# Altium integrated library Infineon_Power_MOSFET.IntLib: 1448 symbols (part 10 of 47)
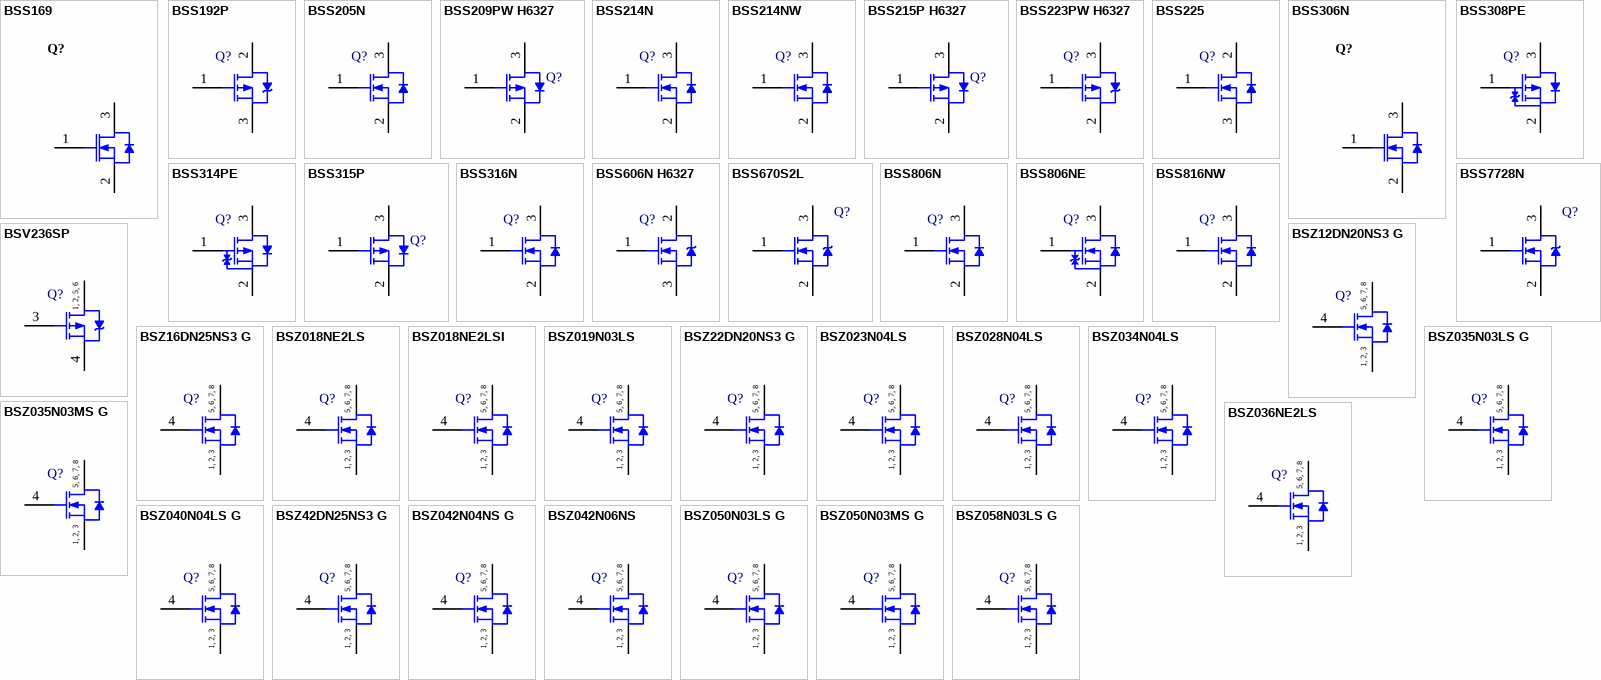
[diagram p46: symbols BSS169 to BSZ058N03LS G]

## BSZ035N03MS G
designator Q?
N-Channel OptiMOS 3 M-Serise Power-MOSFET, 30 V VDS, 40 A ID, -55 to 150 degC, PG-TSDSON-8-1, Reel, Green; Manufacturer: Infineon; PartNumber: BSZ035N03MS G; Green: TRUE; ID (max): 40 A; IDpuls (max): 160 A; Polarity: N; Ptot (max): 69 W; QG: 27 nC; RDS (on) (max): 3.5 mOhm; RDS (on) (max) (@4.5V): 4.3 mOhm; Rth: 1.8 K/W; RthJA (max): 60 K/W; VDS (max): 30 V; VGS(th) (max): 2 V; VGS(th) (min): 1 V; DatasheetVersion: Rev. 1.6; PackageVersion: Rev. 02, 09/2008; PackageReference: PG-TSDSON-8-1; PackageDescription: 8-Pin Plastic (Green) Thin Dual Small Outline Non-Leaded Package, 3.3 x 3.3 mm Body, 0.65 mm Pitch; Supplier 1: Mouser; Supplier Part Number 1: 726-BSZ035N03MSG; Supplier 2: Digi-Key; Supplier Part Number 2: BSZ035N03MSGINTR-ND; Supplier 3: Digi-Key; Supplier Part Number 3: BSZ035N03MSGINCT-ND; Supplier 4: Digi-Key; Supplier Part Number 4: BSZ035N03MSGINDKR-ND; Halogen-free: TRUE; Packing: Reel; RthJC (max): 1.8 K/W; Mounting Technology: Surface Mount; ComponentLink1Description: Manufacturer URL; ComponentLink1URL: http://www.infineon.com/; ComponentLink2Description: Datasheet; ComponentLink2URL: http://www.infineon.com/dgdl/BSZ035N03MSG_rev1.6.pdf?folderId=db3a304313d846880113d91d60c500c4&fileId=db3a304313d846880113ddeb998f02e7; ComponentLink3Description: Package Specification; ComponentLink3URL: http://www.infineon.com/dgdl/BSZ240N12NS3+Rev2.0.pdf?folderId=db3a304313b8b5a60113cee8763b02d7&fileId=db3a30432a40a650012a42f3057a0038
footprint INF-PG-TSDSON-8-1_V (TSDSON, 8-Leads, Body 3.3x3.3mm, Pitch 0.65mm)
pins: 1 SOURCE, 2 SOURCE, 3 SOURCE, 4 GATE, 5 DRAIN, 6 DRAIN, 7 DRAIN, 8 DRAIN
text: 5, 6, 7, 8; 1, 2, 3

## BSZ036NE2LS
designator Q?
N-Channel OptiMOS Power-MOSFET, 25 V VDS, 40 A ID, -55 to 150 degC, PG-TSDSON-8, Reel, Green; Manufacturer: Infineon; PartNumber: BSZ036NE2LS; Green: TRUE; ID (max): 40 A; IDpuls (max): 160 A; Polarity: N; Ptot (max): 37 W; QG: 16 nC; RDS (on) (max): 3.6 mOhm; RDS (on) (max) (@4.5V): 5.1 mOhm; Rth: 3.4 K/W; RthJA (max): 60 K/W; VDS (max): 25 V; VGS(th) (max): 2 V; VGS(th) (min): 1.2 V; DatasheetVersion: Rev. 2.1; PackageVersion: Rev. 02, 12/2010; PackageReference: PG-TSDSON-8; PackageDescription: 8-Pin Plastic (Green) Thin Dual Small Outline Non-Leaded Package, 3.3 x 3.3 mm Body, 0.65 mm Pitch; Supplier 1: Mouser; Supplier Part Number 1: 726-BSZ036NE2LS; Supplier 2: Digi-Key; Supplier Part Number 2: BSZ036NE2LSTR-ND; Supplier 3: Digi-Key; Supplier Part Number 3: BSZ036NE2LSCT-ND; Supplier 4: Digi-Key; Supplier Part Number 4: BSZ036NE2LSDKR-ND; Halogen-free: TRUE; Packing: Reel; RthJC (max): 3.4 K/W; Mounting Technology: Surface Mount; ComponentLink1Description: Manufacturer URL; ComponentLink1URL: http://www.infineon.com/; ComponentLink2Description: Datasheet; ComponentLink2URL: http://www.infineon.com/dgdl/BSZ036NE2LS_Rev+2.1.pdf?folderId=db3a304313b8b5a60113cee8763b02d7&fileId=db3a30432ea425a4012ed92706043869; ComponentLink3Description: Package Specification; ComponentLink3URL: http://www.infineon.com/dgdl/DS_BSZ023N04LS_2_0_N.T..pdf?folderId=db3a304313b8b5a60113cee8763b02d7&fileId=db3a3043353fdc160135530f51f54823
footprint INF-PG-TSDSON-8_FL_V (TSDSON, 8-Leads, Body 3.3x3.3mm, Pitch 0.65mm)
pins: 1 SOURCE, 2 SOURCE, 3 SOURCE, 4 GATE, 5 DRAIN, 6 DRAIN, 7 DRAIN, 8 DRAIN
text: 5, 6, 7, 8; 1, 2, 3

## BSZ040N04LS G
designator Q?
N-Channel OptiMOS 3 Power-Transistor, 40 V VDS, 40 A ID, -55 to 150 degC, PG-TSDSON-8-1, Reel, Green; Manufacturer: Infineon; PartNumber: BSZ040N04LS G; Green: TRUE; ID (max): 40 A; IDpuls (max): 160 A; Polarity: N; Ptot (max): 69 W; QG: 48 nC; RDS (on) (max): 4 mOhm; RDS (on) (max) (@4.5V): 5.6 mOhm; Rth: 1.8 K/W; RthJA (max): 60 K/W; VDS (max): 40 V; VGS(th) (max): 2 V; VGS(th) (min): 1.2 V; DatasheetVersion: Rev. 1.3; PackageVersion: Rev. 01, 03/2007; PackageReference: PG-TSDSON-8-1; PackageDescription: 8-Pin Plastic (Green) Thin Dual Small Outline Non-Leaded Package, 3.3 x 3.3 mm Body, 0.65 mm Pitch; Supplier 1: Mouser; Supplier Part Number 1: 726-BSZ040N04LSG; Supplier 2: Digi-Key; Supplier Part Number 2: BSZ040N04LSGINTR-ND; Supplier 3: Digi-Key; Supplier Part Number 3: BSZ040N04LSGINCT-ND; Supplier 4: Digi-Key; Supplier Part Number 4: BSZ040N04LSGINDKR-ND; Halogen-free: TRUE; Packing: Reel; RthJC (max): 1.8 K/W; Mounting Technology: Surface Mount; ComponentLink1Description: Manufacturer URL; ComponentLink1URL: http://www.infineon.com/; ComponentLink2Description: Datasheet; ComponentLink2URL: http://www.infineon.com/dgdl/BSZ040N04LSG_rev1.3_.pdf?folderId=db3a3043163797a6011643468e7505a4&fileId=db3a3043163797a6011643b9e30f067b; ComponentLink3Description: Package Specification; ComponentLink3URL: http://www.infineon.com/dgdl/BSZ100N06LS3_rev2.3.pdf?folderId=db3a30431ddc9372011ebafa04517f8b&fileId=db3a30431ddc9372011ebb132c97000a
footprint INF-PG-TSDSON-8-1_A_V (TSDSON, 8-Leads, Body 3.3x3.3mm, Pitch 0.65mm)
pins: 1 SOURCE, 2 SOURCE, 3 SOURCE, 4 GATE, 5 DRAIN, 6 DRAIN, 7 DRAIN, 8 DRAIN
text: 5, 6, 7, 8; 1, 2, 3

## BSZ42DN25NS3 G
designator Q?
N-Channel OptiMOS 3 Power-Transistor, 250 V VDS, 5 A ID, -55 to 150 degC, PG-TSDSON-8-1, Reel, Green; Manufacturer: Infineon; PartNumber: BSZ42DN25NS3 G; Green: TRUE; ID (max): 5 A; IDpuls (max): 20 A; Polarity: N; Ptot (max): 33.8 W; QG: 4.2 nC; RDS (on) (max): 425 mOhm; Rth: 3.7 K/W; RthJA (max): 60 K/W; VDS (max): 250 V; VGS(th) (max): 4 V; VGS(th) (min): 2 V; DatasheetVersion: Rev. 2.2; PackageVersion: Rev. 02, 09/2008; PackageReference: PG-TSDSON-8-1; PackageDescription: 8-Pin Plastic (Green) Thin Dual Small Outline Non-Leaded Package, 3.3 x 3.3 mm Body, 0.65 mm Pitch; Supplier 1: Mouser; Supplier Part Number 1: 726-BSZ42DN25NS3G; Supplier 2: Digi-Key; Supplier Part Number 2: BSZ42DN25NS3 GTR-ND; Supplier 3: Digi-Key; Supplier Part Number 3: BSZ42DN25NS3 GCT-ND; Supplier 4: Digi-Key; Supplier Part Number 4: BSZ42DN25NS3 GDKR-ND; Halogen-free: TRUE; Packing: Reel; RthJC (max): 3.7 K/W; Mounting Technology: Surface Mount; ComponentLink1Description: Manufacturer URL; ComponentLink1URL: http://www.infineon.com/; ComponentLink2Description: Datasheet; ComponentLink2URL: http://www.infineon.com/dgdl/BSZ42DN25NS3+Rev2.2.pdf?folderId=db3a304325305e6d012596c6ca7b290a&fileId=db3a30432ad629a6012b15e5a93b1a8b; ComponentLink3Description: Package Specification; ComponentLink3URL: http://www.infineon.com/dgdl/BSZ240N12NS3+Rev2.0.pdf?folderId=db3a304313b8b5a60113cee8763b02d7&fileId=db3a30432a40a650012a42f3057a0038
footprint INF-PG-TSDSON-8-1_V (TSDSON, 8-Leads, Body 3.3x3.3mm, Pitch 0.65mm)
pins: 1 SOURCE, 2 SOURCE, 3 SOURCE, 4 GATE, 5 DRAIN, 6 DRAIN, 7 DRAIN, 8 DRAIN
text: 5, 6, 7, 8; 1, 2, 3

## BSZ042N04NS G
designator Q?
N-Channel OptiMOS 3 Power-Transistor, 40 V VDS, 40 A ID, -55 to 150 degC, PG-TSDSON-8-21, Reel, Green; Manufacturer: Infineon; PartNumber: BSZ042N04NS G; Green: TRUE; ID (max): 40 A; IDpuls (max): 160 A; Polarity: N; Ptot (max): 69 W; QG: 35 nC; RDS (on) (max): 4.2 mOhm; Rth: 1.8 K/W; RthJA (max): 60 K/W; VDS (max): 40 V; VGS(th) (max): 4 V; VGS(th) (min): 2 V; DatasheetVersion: Rev. 1.3; PackageVersion: Rev. 01, 03/2007; PackageReference: PG-TSDSON-8-21; PackageDescription: 8-Pin Plastic (Green) Small Outline Non-Leaded Package, 3.3 x 3.3 mm Body, 0.65 mm Pitch; Supplier 1: Mouser; Supplier Part Number 1: 726-BSZ042N04NSG; Supplier 2: Digi-Key; Supplier Part Number 2: BSZ042N04NSGINTR-ND; Supplier 3: Digi-Key; Supplier Part Number 3: BSZ042N04NSGINCT-ND; Supplier 4: Digi-Key; Supplier Part Number 4: BSZ042N04NSGINDKR-ND; Halogen-free: TRUE; Packing: Reel; RthJC (max): 1.8 K/W; Mounting Technology: Surface Mount; ComponentLink1Description: Manufacturer URL; ComponentLink1URL: http://www.infineon.com/; ComponentLink2Description: Datasheet; ComponentLink2URL: http://www.infineon.com/dgdl/BSZ042N04NSG_rev2.pdf?folderId=db3a3043156fd5730115c7d50620107c&fileId=db3a30431689f4420116c47d8f88084b; ComponentLink3Description: Package Specification; ComponentLink3URL: http://www.infineon.com/dgdl/BSZ110N06NS3_Rev2.4.pdf?folderId=db3a30431ddc9372011ebafa04517f8b&fileId=db3a30431ddc9372011ebb15d4e8001a
footprint INF-PG-TSDSON-8-21_V (SON, 8-Leads, Body 3.3x3.3mm, Pitch 0.65mm)
pins: 1 SOURCE, 2 SOURCE, 3 SOURCE, 4 GATE, 5 DRAIN, 6 DRAIN, 7 DRAIN, 8 DRAIN
text: 5, 6, 7, 8; 1, 2, 3

## BSZ042N06NS
designator Q?
N-Channel OptiMOS Power-Transistor, 60 V VDS, 40 A ID, -55 to 150 degC, PG-TSDSON-8, Reel, Green; Manufacturer: Infineon; PartNumber: BSZ042N06NS; Green: TRUE; ID (max): 40 A; IDpuls (max): 160 A; Polarity: N; Ptot (max): 69 W; QG: 27 nC; RDS (on) (max): 4.2 mOhm; Rth: 1.8 K/W; RthJA (max): 60 K/W; VDS (max): 60 V; VGS(th) (max): 3.3 V; VGS(th) (min): 2.1 V; DatasheetVersion: Rev. 2.1; PackageVersion: Rev. 02, 12/2010; PackageReference: PG-TSDSON-8; PackageDescription: 8-Pin Plastic (Green) Thin Dual Small Outline Non-Leaded Package, 3.3 x 3.3 mm Body, 0.65 mm Pitch; Supplier 1: Digi-Key; Supplier Part Number 1: BSZ042N06NSTR-ND; Supplier 2: Digi-Key; Supplier Part Number 2: BSZ042N06NSCT-ND; Supplier 3: Digi-Key; Supplier Part Number 3: BSZ042N06NSDKR-ND; Halogen-free: TRUE; Packing: Reel; RthJC (max): 1.8 K/W; Mounting Technology: Surface Mount; ComponentLink1Description: Manufacturer URL; ComponentLink1URL: http://www.infineon.com/; ComponentLink2Description: Datasheet; ComponentLink2URL: http://www.infineon.com/dgdl/BSZ042N06NS_Rev2.1.pdf?folderId=db3a30431ddc9372011ebafa04517f8b&fileId=db3a3043345a30bc013465d4bf1862fd; ComponentLink3Description: Package Specification; ComponentLink3URL: http://www.infineon.com/dgdl/DS_BSZ023N04LS_2_0_N.T..pdf?folderId=db3a304313b8b5a60113cee8763b02d7&fileId=db3a3043353fdc160135530f51f54823
footprint INF-PG-TSDSON-8_FL_V (TSDSON, 8-Leads, Body 3.3x3.3mm, Pitch 0.65mm)
pins: 1 SOURCE, 2 SOURCE, 3 SOURCE, 4 GATE, 5 DRAIN, 6 DRAIN, 7 DRAIN, 8 DRAIN
text: 5, 6, 7, 8; 1, 2, 3

## BSZ050N03LS G
designator Q?
N-Channel OptiMOS 3 Power-MOSFET, 30 V VDS, 40 A ID, -55 to 150 degC, PG-TSDSON-8-1, Reel, Green; Manufacturer: Infineon; PartNumber: BSZ050N03LS G; Green: TRUE; ID (max): 40 A; IDpuls (max): 160 A; Polarity: N; Ptot (max): 50 W; QG: 13 nC; RDS (on) (max): 5 mOhm; RDS (on) (max) (@4.5V): 7.8 mOhm; Rth: 2.5 K/W; RthJA (max): 60 K/W; VDS (max): 30 V; VGS(th) (max): 2.2 V; VGS(th) (min): 1 V; DatasheetVersion: Rev. 1.3; PackageVersion: Rev. 02, 09/2008; PackageReference: PG-TSDSON-8-1; PackageDescription: 8-Pin Plastic (Green) Thin Dual Small Outline Non-Leaded Package, 3.3 x 3.3 mm Body, 0.65 mm Pitch; Supplier 1: Mouser; Supplier Part Number 1: 726-BSZ050N03LSG; Supplier 2: Newark; Supplier Part Number 2: 60R2532; Supplier 3: Farnell; Supplier Part Number 3: 1775495; Supplier 4: Digi-Key; Supplier Part Number 4: BSZ050N03LSGINTR-ND; Supplier 5: Digi-Key; Supplier Part Number 5: BSZ050N03LSGINCT-ND; Supplier 6: Digi-Key; Supplier Part Number 6: BSZ050N03LSGINDKR-ND; Halogen-free: TRUE; Packing: Reel; RthJC (max): 2.5 K/W; Mounting Technology: Surface Mount; ComponentLink1Description: Manufacturer URL; ComponentLink1URL: http://www.infineon.com/; ComponentLink2Description: Datasheet; ComponentLink2URL: http://www.infineon.com/dgdl/BSZ050N03LSG_rev2.pdf?folderId=db3a304313b8b5a60113cee8ed2a02db&fileId=db3a304313b8b5a60113d3f6944e03ee; ComponentLink3Description: Package Specification; ComponentLink3URL: http://www.infineon.com/dgdl/BSZ240N12NS3+Rev2.0.pdf?folderId=db3a304313b8b5a60113cee8763b02d7&fileId=db3a30432a40a650012a42f3057a0038
footprint INF-PG-TSDSON-8-1_V (TSDSON, 8-Leads, Body 3.3x3.3mm, Pitch 0.65mm)
pins: 1 SOURCE, 2 SOURCE, 3 SOURCE, 4 GATE, 5 DRAIN, 6 DRAIN, 7 DRAIN, 8 DRAIN
text: 5, 6, 7, 8; 1, 2, 3

## BSZ050N03MS G
designator Q?
N-Channel OptiMOS 3 M-Series Power-MOSFET, 30 V VDS, 40 A ID, -55 to 150 degC, PG-TSDSON-8-1, Reel, Green; Manufacturer: Infineon; PartNumber: BSZ050N03MS G; Green: TRUE; ID (max): 40 A; IDpuls (max): 160 A; Polarity: N; Ptot (max): 48 W; QG: 34 nC; RDS (on) (max): 4.5 mOhm; RDS (on) (max) (@4.5V): 5.7 mOhm; Rth: 2.5 K/W; RthJA (max): 60 K/W; VDS (max): 30 V; VGS(th) (max): 2 V; VGS(th) (min): 1 V; DatasheetVersion: Rev. 1.7; PackageVersion: Rev. 02, 09/2008; PackageReference: PG-TSDSON-8-1; PackageDescription: 8-Pin Plastic (Green) Thin Dual Small Outline Non-Leaded Package, 3.3 x 3.3 mm Body, 0.65 mm Pitch; Supplier 1: Mouser; Supplier Part Number 1: 726-BSZ050N03MSG; Supplier 2: Digi-Key; Supplier Part Number 2: BSZ050N03MSGINTR-ND; Supplier 3: Digi-Key; Supplier Part Number 3: BSZ050N03MSGINCT-ND; Supplier 4: Digi-Key; Supplier Part Number 4: BSZ050N03MSGINDKR-ND; Halogen-free: TRUE; Packing: Reel; RthJC (max): 2.5 K/W; Mounting Technology: Surface Mount; ComponentLink1Description: Manufacturer URL; ComponentLink1URL: http://www.infineon.com/; ComponentLink2Description: Datasheet; ComponentLink2URL: http://www.infineon.com/dgdl/BSZ050N03MSG_rev2.pdf?folderId=db3a304313d846880113d91d60c500c4&fileId=db3a304313d846880113ddea0e8802e4; ComponentLink3Description: Package Specification; ComponentLink3URL: http://www.infineon.com/dgdl/BSZ240N12NS3+Rev2.0.pdf?folderId=db3a304313b8b5a60113cee8763b02d7&fileId=db3a30432a40a650012a42f3057a0038
footprint INF-PG-TSDSON-8-1_V (TSDSON, 8-Leads, Body 3.3x3.3mm, Pitch 0.65mm)
pins: 1 SOURCE, 2 SOURCE, 3 SOURCE, 4 GATE, 5 DRAIN, 6 DRAIN, 7 DRAIN, 8 DRAIN
text: 5, 6, 7, 8; 1, 2, 3

## BSZ058N03LS G
designator Q?
N-Channel OptiMOS 3 Power-MOSFET, 30 V VDS, 40 A ID, -55 to 150 degC, PG-TSDSON-8-1, Reel, Green; Manufacturer: Infineon; PartNumber: BSZ058N03LS G; Green: TRUE; ID (max): 40 A; IDpuls (max): 160 A; Polarity: N; Ptot (max): 45 W; QG: 22 nC; RDS (on) (max): 5.8 mOhm; RDS (on) (max) (@4.5V): 8.9 mOhm; Rth: 2.8 K/W; RthJA (max): 60 K/W; VDS (max): 30 V; VGS(th) (max): 2.2 V; VGS(th) (min): 1 V; DatasheetVersion: Rev. 2.0; PackageVersion: Rev. 02, 09/2008; PackageReference: PG-TSDSON-8-1; PackageDescription: 8-Pin Plastic (Green) Thin Dual Small Outline Non-Leaded Package, 3.3 x 3.3 mm Body, 0.65 mm Pitch; Supplier 1: Mouser; Supplier Part Number 1: 726-BSZ058N03LSG; Supplier 2: Newark; Supplier Part Number 2: 60R2534; Supplier 3: Farnell; Supplier Part Number 3: 1775497; Supplier 4: Digi-Key; Supplier Part Number 4: BSZ058N03LSGINTR-ND; Supplier 5: Digi-Key; Supplier Part Number 5: BSZ058N03LSGINCT-ND; Supplier 6: Digi-Key; Supplier Part Number 6: BSZ058N03LSGINDKR-ND; Halogen-free: TRUE; Packing: Reel; RthJC (max): 2.8 K/W; Mounting Technology: Surface Mount; ComponentLink1Description: Manufacturer URL; ComponentLink1URL: http://www.infineon.com/; ComponentLink2Description: Datasheet; ComponentLink2URL: http://www.infineon.com/dgdl/BSZ058N03LSG_rev2.pdf?folderId=db3a304313b8b5a60113cee8ed2a02db&fileId=db3a304313b8b5a60113d3fa0a7e03f2; ComponentLink3Description: Package Specification; ComponentLink3URL: http://www.infineon.com/dgdl/BSZ240N12NS3+Rev2.0.pdf?folderId=db3a304313b8b5a60113cee8763b02d7&fileId=db3a30432a40a650012a42f3057a0038
footprint INF-PG-TSDSON-8-1_V (TSDSON, 8-Leads, Body 3.3x3.3mm, Pitch 0.65mm)
pins: 1 SOURCE, 2 SOURCE, 3 SOURCE, 4 GATE, 5 DRAIN, 6 DRAIN, 7 DRAIN, 8 DRAIN
text: 5, 6, 7, 8; 1, 2, 3

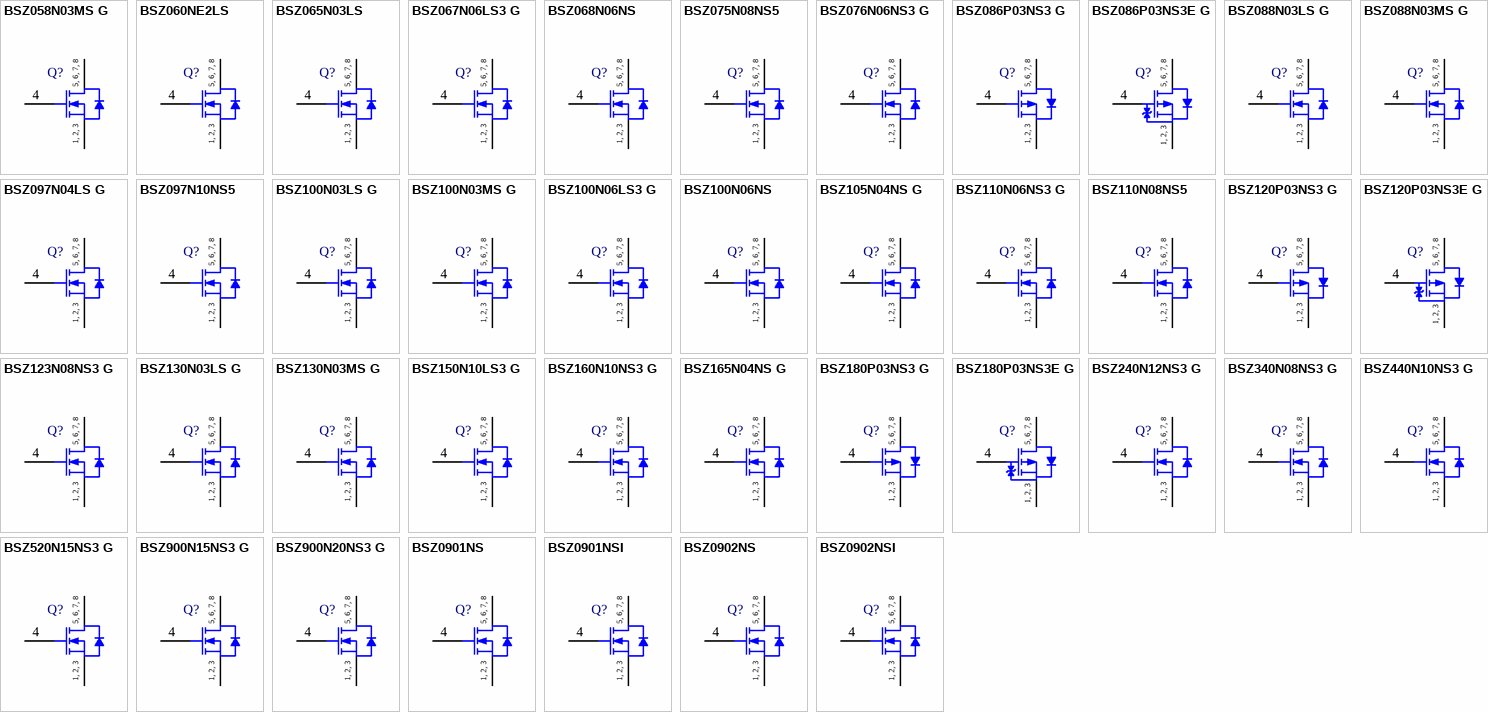
[diagram p8: symbols BSZ058N03MS G to BSZ0902NSI]

## BSZ058N03MS G
designator Q?
N-Channel OptiMOS 3 M-Series Power-MOSFET, 30 V VDS, 40 A ID, -55 to 150 degC, PG-TSDSON-8-1, Reel, Green; Manufacturer: Infineon; PartNumber: BSZ058N03MS G; Green: TRUE; ID (max): 40 A; IDpuls (max): 160 A; Polarity: N; Ptot (max): 45 W; QG: 14 nC; RDS (on) (max): 5 mOhm; RDS (on) (max) (@4.5V): 6.4 mOhm; Rth: 2.8 K/W; RthJA (max): 60 K/W; VDS (max): 30 V; VGS(th) (max): 2 V; VGS(th) (min): 1 V; DatasheetVersion: Rev. 2.0; PackageVersion: Rev. 02, 09/2008; PackageReference: PG-TSDSON-8-1; PackageDescription: 8-Pin Plastic (Green) Thin Dual Small Outline Non-Leaded Package, 3.3 x 3.3 mm Body, 0.65 mm Pitch; Supplier 1: Mouser; Supplier Part Number 1: 726-BSZ058N03MSG; Supplier 2: Digi-Key; Supplier Part Number 2: BSZ058N03MSGINTR-ND; Supplier 3: Digi-Key; Supplier Part Number 3: BSZ058N03MSGINCT-ND; Supplier 4: Digi-Key; Supplier Part Number 4: BSZ058N03MSGINDKR-ND; Halogen-free: TRUE; Packing: Reel; RthJC (max): 2.8 K/W; Mounting Technology: Surface Mount; ComponentLink1Description: Manufacturer URL; ComponentLink1URL: http://www.infineon.com/; ComponentLink2Description: Datasheet; ComponentLink2URL: http://www.infineon.com/dgdl/BSZ058N03MSG_rev2.pdf?folderId=db3a304313d846880113d91d60c500c4&fileId=db3a304313d846880113ddee2ce902ed; ComponentLink3Description: Package Specification; ComponentLink3URL: http://www.infineon.com/dgdl/BSZ240N12NS3+Rev2.0.pdf?folderId=db3a304313b8b5a60113cee8763b02d7&fileId=db3a30432a40a650012a42f3057a0038
footprint INF-PG-TSDSON-8-1_V (TSDSON, 8-Leads, Body 3.3x3.3mm, Pitch 0.65mm)
pins: 1 SOURCE, 2 SOURCE, 3 SOURCE, 4 GATE, 5 DRAIN, 6 DRAIN, 7 DRAIN, 8 DRAIN
text: 5, 6, 7, 8; 1, 2, 3

## BSZ060NE2LS
designator Q?
N-Channel OptiMOS Power-MOSFET, 25 V VDS, 40 A ID, -55 to 150 degC, PG-TSDSON-8, Reel, Green; Manufacturer: Infineon; PartNumber: BSZ060NE2LS; Green: TRUE; ID (max): 40 A; IDpuls (max): 160 A; Polarity: N; Ptot (max): 26 W; QG: 9.1 nC; RDS (on) (max): 6 mOhm; RDS (on) (max) (@4.5V): 8.1 mOhm; Rth: 4.9 K/W; RthJA (max): 62 K/W; VDS (max): 25 V; VGS(th) (max): 2 V; VGS(th) (min): 1.2 V; DatasheetVersion: Rev. 2.1; PackageVersion: Rev. 02, 12/2010; PackageReference: PG-TSDSON-8; PackageDescription: 8-Pin Plastic (Green) Thin Dual Small Outline Non-Leaded Package, 3.3 x 3.3 mm Body, 0.65 mm Pitch; Supplier 1: Mouser; Supplier Part Number 1: 726-BSZ060NE2LS; Supplier 2: Digi-Key; Supplier Part Number 2: BSZ060NE2LSTR-ND; Supplier 3: Digi-Key; Supplier Part Number 3: BSZ060NE2LSCT-ND; Supplier 4: Digi-Key; Supplier Part Number 4: BSZ060NE2LSDKR-ND; Halogen-free: TRUE; Packing: Reel; RthJC (max): 4.9 K/W; Mounting Technology: Surface Mount; ComponentLink1Description: Manufacturer URL; ComponentLink1URL: http://www.infineon.com/; ComponentLink2Description: Datasheet; ComponentLink2URL: http://www.infineon.com/dgdl/BSZ060NE2LS_Rev+2.1.pdf?folderId=db3a304313b8b5a60113cee8763b02d7&fileId=db3a30432ea425a4012ec927cb360e1f; ComponentLink3Description: Package Specification; ComponentLink3URL: http://www.infineon.com/dgdl/DS_BSZ023N04LS_2_0_N.T..pdf?folderId=db3a304313b8b5a60113cee8763b02d7&fileId=db3a3043353fdc160135530f51f54823
footprint INF-PG-TSDSON-8_FL_V (TSDSON, 8-Leads, Body 3.3x3.3mm, Pitch 0.65mm)
pins: 1 SOURCE, 2 SOURCE, 3 SOURCE, 4 GATE, 5 DRAIN, 6 DRAIN, 7 DRAIN, 8 DRAIN
text: 5, 6, 7, 8; 1, 2, 3

## BSZ065N03LS
designator Q?
N-Channel OptiMOS Power-MOSFET, 30 V VDS, 40 A ID, -55 to 150 degC, PG-TSDSON-8, Reel, Green; Manufacturer: Infineon; PartNumber: BSZ065N03LS; Green: TRUE; ID (max): 40 A; IDpuls (max): 160 A; Polarity: N; Ptot (max): 26 W; QG: 10 nC; RDS (on) (max): 6.5 mOhm; RDS (on) (max) (@4.5V): 8.6 mOhm; Rth: 4.9 K/W; RthJA (max): 60 K/W; VDS (max): 30 V; VGS(th) (max): 2 V; VGS(th) (min): 1.2 V; DatasheetVersion: Rev. 2.1; PackageVersion: Rev. 02, 12/2010; PackageReference: PG-TSDSON-8; PackageDescription: 8-Pin Plastic (Green) Thin Dual Small Outline Non-Leaded Package, 3.3 x 3.3 mm Body, 0.65 mm Pitch; Supplier 1: Mouser; Supplier Part Number 1: 726-BSZ065N03LS; Supplier 2: Digi-Key; Supplier Part Number 2: BSZ065N03LSTR-ND; Supplier 3: Digi-Key; Supplier Part Number 3: BSZ065N03LSCT-ND; Supplier 4: Digi-Key; Supplier Part Number 4: BSZ065N03LSDKR-ND; Halogen-free: TRUE; Packing: Reel; RthJC (max): 4.9 K/W; Mounting Technology: Surface Mount; ComponentLink1Description: Manufacturer URL; ComponentLink1URL: http://www.infineon.com/; ComponentLink2Description: Datasheet; ComponentLink2URL: http://www.infineon.com/dgdl/BSZ065N03LS_Rev2.1_.pdf?folderId=db3a304313b8b5a60113cee8763b02d7&fileId=db3a30432ea425a4012ed7fbc0b23834; ComponentLink3Description: Package Specification; ComponentLink3URL: http://www.infineon.com/dgdl/DS_BSZ023N04LS_2_0_N.T..pdf?folderId=db3a304313b8b5a60113cee8763b02d7&fileId=db3a3043353fdc160135530f51f54823
footprint INF-PG-TSDSON-8_FL_V (TSDSON, 8-Leads, Body 3.3x3.3mm, Pitch 0.65mm)
pins: 1 SOURCE, 2 SOURCE, 3 SOURCE, 4 GATE, 5 DRAIN, 6 DRAIN, 7 DRAIN, 8 DRAIN
text: 5, 6, 7, 8; 1, 2, 3

## BSZ067N06LS3 G
designator Q?
N-Channel OptiMOS 3 Power-Transistor, 60 V VDS, 20 A ID, -55 to 150 degC, PG-TSDSON-8-1, Reel, Green; Manufacturer: Infineon; PartNumber: BSZ067N06LS3 G; Green: TRUE; ID (max): 20 A; IDpuls (max): 80 A; Polarity: N; Ptot (max): 69 W; QG: 23 nC; RDS (on) (max): 6.7 mOhm; RDS (on) (max) (@4.5V): 12.1 mOhm; Rth: 1.8 K/W; RthJA (max): 60 K/W; VDS (max): 60 V; VGS(th) (max): 2.2 V; VGS(th) (min): 1.2 V; DatasheetVersion: Rev. 2.3; PackageVersion: Rev. 01, 03/2007; PackageReference: PG-TSDSON-8-1; PackageDescription: 8-Pin Plastic (Green) Thin Dual Small Outline Non-Leaded Package, 3.3 x 3.3 mm Body, 0.65 mm Pitch; Supplier 1: Mouser; Supplier Part Number 1: 726-BSZ067N06LS3G; Supplier 2: Newark; Supplier Part Number 2: 47W3361; Supplier 3: Farnell; Supplier Part Number 3: 2212830; Supplier 4: Digi-Key; Supplier Part Number 4: BSZ067N06LS3GINTR-ND; Supplier 5: Digi-Key; Supplier Part Number 5: BSZ067N06LS3GINCT-ND; Supplier 6: Digi-Key; Supplier Part Number 6: BSZ067N06LS3GINDKR-ND; Halogen-free: TRUE; Packing: Reel; RthJC (max): 1.8 K/W; Mounting Technology: Surface Mount; ComponentLink1Description: Manufacturer URL; ComponentLink1URL: http://www.infineon.com/; ComponentLink2Description: Datasheet; ComponentLink2URL: http://www.infineon.com/dgdl/BSZ067N06LS3_rev2.3.pdf?folderId=db3a30431ddc9372011ebafa04517f8b&fileId=db3a30431ddc9372011ebb0f41537ff6; ComponentLink3Description: Package Specification; ComponentLink3URL: http://www.infineon.com/dgdl/BSZ100N06LS3_rev2.3.pdf?folderId=db3a30431ddc9372011ebafa04517f8b&fileId=db3a30431ddc9372011ebb132c97000a
footprint INF-PG-TSDSON-8-1_A_V (TSDSON, 8-Leads, Body 3.3x3.3mm, Pitch 0.65mm)
pins: 1 SOURCE, 2 SOURCE, 3 SOURCE, 4 GATE, 5 DRAIN, 6 DRAIN, 7 DRAIN, 8 DRAIN
text: 5, 6, 7, 8; 1, 2, 3

## BSZ068N06NS
designator Q?
N-Channel OptiMOS(TM) Power-MOSFET, 60 V VDS, 40 A ID, -55 to 150 degC, PG-TSDSON-8, Reel, Green; Manufacturer: Infineon; PartNumber: BSZ068N06NS; Green: TRUE; ID (max): 40 A; IDpuls (max): 160 A; Polarity: N; Ptot (max): 46 W; QG: 17 nc; RDS (on) (max): 6.8 mOhm; RthJA (max): 60 K/W; RthJC (max): 2.7 K/W; VDS (max): 60 V; VGS(th) (max): 3.3 V; VGS(th) (min): 2.1 V; DatasheetVersion: Rev. 2.0; PackageVersion: Rev. 2.0, 04/2013; PackageReference: PG-TSDSON-8; PackageDescription: 8-Pin Plastic (Green) Thin Dual Small Outline Non-Leaded Package, 3.3 x 3.3 mm Body, 0.65 mm Pitch; Supplier 1: Mouser; Supplier Part Number 1: N/A; Halogen-free: TRUE; Mounting: SMD; Packing: Reel; Technology: OptiMOS(TM); Mounting Technology: Surface Mount; ComponentLink1Description: Manufacturer URL; ComponentLink1URL: http://www.infineon.com/; ComponentLink2Description: Datasheet; ComponentLink2URL: http://www.infineon.com/dgdl/BSZ068N06NS_Rev2.0.pdf?folderId=db3a304313b8b5a60113cee8763b02d7&fileId=db3a304342371bb001424c918e60710e; ComponentLink3Description: Package Specification; ComponentLink3URL: http://www.infineon.com/dgdl/BSZ034N04LS_rev2.0.pdf?folderId=db3a304313b8b5a60113cee8763b02d7&fileId=db3a304342371bb001424c3fe5bc7083
footprint INF-PG-TSDSON-8_FL_V (TSDSON, 8-Leads, Body 3.3x3.3mm, Pitch 0.65mm)
pins: 1 SOURCE, 2 SOURCE, 3 SOURCE, 4 GATE, 5 DRAIN, 6 DRAIN, 7 DRAIN, 8 DRAIN
text: 5, 6, 7, 8; 1, 2, 3

## BSZ075N08NS5
designator Q?
N-Channel OptiMOS(TM) 5 Power-Transistor, 80 V VDS, 40 A ID, -55 to 150 degC, PG-TSDSON-8, Reel, Green; Manufacturer: Infineon; PartNumber: BSZ075N08NS5; Green: TRUE; ID (max): 40 A; IDpuls (max): 160 A; Polarity: N; Ptot (max): 69 W; QG: 24 nc; RDS (on) (max): 7.5 mOhm; RthJA (max): 60 K/W; RthJC (max): 1.8 K/W; VDS (max): 80 V; VGS(th) (max): 3.8 V; VGS(th) (min): 2.2 V; DatasheetVersion: Rev. 2.1; PackageVersion: Rev. 2.0, 04/2013; PackageReference: PG-TSDSON-8; PackageDescription: 8-Pin Plastic (Green) Thin Dual Small Outline Non-Leaded Package, 3.3 x 3.3 mm Body, 0.65 mm Pitch; Halogen-free: TRUE; Mounting: SMD; Packing: Reel; Technology: OptiMOS(TM); Mounting Technology: Surface Mount; ComponentLink1Description: Manufacturer URL; ComponentLink1URL: http://www.infineon.com/; ComponentLink2Description: Datasheet; ComponentLink2URL: http://www.infineon.com/dgdl/BSZ075N08NS5_2_1.pdf?folderId=db3a304313b8b5a60113cee7c66a02d6&fileId=5546d461454603990145ccd5743e61f8; ComponentLink3Description: Package Specification; ComponentLink3URL: http://www.infineon.com/dgdl/BSZ034N04LS_rev2.0.pdf?folderId=db3a304313b8b5a60113cee8763b02d7&fileId=db3a304342371bb001424c3fe5bc7083
footprint INF-PG-TSDSON-8_FL_V (TSDSON, 8-Leads, Body 3.3x3.3mm, Pitch 0.65mm)
pins: 1 SOURCE, 2 SOURCE, 3 SOURCE, 4 GATE, 5 DRAIN, 6 DRAIN, 7 DRAIN, 8 DRAIN
text: 5, 6, 7, 8; 1, 2, 3

## BSZ076N06NS3 G
designator Q?
N-Channel OptiMOS 3 Power-Transistor, 60 V VDS, 20 A ID, -55 to 150 degC, PG-TSDSON-8-21, Reel, Green; Manufacturer: Infineon; PartNumber: BSZ076N06NS3 G; Green: TRUE; ID (max): 20 A; IDpuls (max): 80 A; Polarity: N; Ptot (max): 69 W; QG: 37 nC; RDS (on) (max): 7.6 mOhm; Rth: 1.8 K/W; RthJA (max): 60 K/W; VDS (max): 60 V; VGS(th) (max): 4 V; VGS(th) (min): 2 V; DatasheetVersion: Rev. 2.4; PackageVersion: Rev. 01, 03/2007; PackageReference: PG-TSDSON-8-21; PackageDescription: 8-Pin Plastic (Green) Small Outline Non-Leaded Package, 3.3 x 3.3 mm Body, 0.65 mm Pitch; Supplier 1: Mouser; Supplier Part Number 1: 726-BSZ076N06NS3G; Supplier 2: Newark; Supplier Part Number 2: 47W3362; Supplier 3: Farnell; Supplier Part Number 3: 2212829; Supplier 4: Digi-Key; Supplier Part Number 4: BSZ076N06NS3GINTR-ND; Supplier 5: Digi-Key; Supplier Part Number 5: BSZ076N06NS3GINCT-ND; Halogen-free: TRUE; Packing: Reel; RthJC (max): 1.8 K/W; Mounting Technology: Surface Mount; ComponentLink1Description: Manufacturer URL; ComponentLink1URL: http://www.infineon.com/; ComponentLink2Description: Datasheet; ComponentLink2URL: http://www.infineon.com/dgdl/BSZ076N06NS3_Rev2.4_pdf.pdf?folderId=db3a30431ddc9372011ebafa04517f8b&fileId=db3a30431ddc9372011ebb11f9c30005; ComponentLink3Description: Package Specification; ComponentLink3URL: http://www.infineon.com/dgdl/BSZ110N06NS3_Rev2.4.pdf?folderId=db3a30431ddc9372011ebafa04517f8b&fileId=db3a30431ddc9372011ebb15d4e8001a
footprint INF-PG-TSDSON-8-21_V (SON, 8-Leads, Body 3.3x3.3mm, Pitch 0.65mm)
pins: 1 SOURCE, 2 SOURCE, 3 SOURCE, 4 GATE, 5 DRAIN, 6 DRAIN, 7 DRAIN, 8 DRAIN
text: 5, 6, 7, 8; 1, 2, 3

## BSZ086P03NS3 G
designator Q?
P-Channel OptiMOS P3 Power-Transistor, -30 V VDS, -40 A ID, -55 to 150 degC, PG-TSDSON-8-1, Reel, Green; Manufacturer: Infineon; PartNumber: BSZ086P03NS3 G; Green: TRUE; ID (max): -40 A; IDpuls (max): -160 A; Pto t (max): 69 W; QG: 43.2 nC; RDS (on) (max): 8.6 mOhm; Rth: 1.8 K/W; RthJC (max): 1.8 K/W; VDS (max): -30 V; VGS(th) (max): -1.9 V; VGS(th) (min): -3.1 V; DatasheetVersion: Rev. 2.03; PackageVersion: Rev. 02, 09/2008; PackageReference: PG-TSDSON-8-1; PackageDescription: 8-Pin Plastic (Green) Thin Dual Small Outline Non-Leaded Package, 3.3 x 3.3 mm Body, 0.65 mm Pitch; Supplier 1: Mouser; Supplier Part Number 1: 726-BSZ086P03NS3G; Supplier 2: Digi-Key; Supplier Part Number 2: BSZ086P03NS3 GTR-ND; Supplier 3: Digi-Key; Supplier Part Number 3: BSZ086P03NS3 GCT-ND; Supplier 4: Digi-Key; Supplier Part Number 4: BSZ086P03NS3 GDKR-ND; Halogen-free: TRUE; Packing: Reel; Mounting Technology: Surface Mount; ComponentLink1Description: Manufacturer URL; ComponentLink1URL: http://www.infineon.com/; ComponentLink2Description: Datasheet; ComponentLink2URL: http://www.infineon.com/dgdl/BSZ086P03NS3+G_2.03.pdf?folderId=db3a304314dca38901154a7313d21a66&fileId=db3a30431ff9881501203d3a5e7d17a9; ComponentLink3Description: Package Specification; ComponentLink3URL: http://www.infineon.com/dgdl/BSZ240N12NS3+Rev2.0.pdf?folderId=db3a304313b8b5a60113cee8763b02d7&fileId=db3a30432a40a650012a42f3057a0038
footprint INF-PG-TSDSON-8-1_V (TSDSON, 8-Leads, Body 3.3x3.3mm, Pitch 0.65mm)
pins: 1 SOURCE, 2 SOURCE, 3 SOURCE, 4 GATE, 5 DRAIN, 6 DRAIN, 7 DRAIN, 8 DRAIN
text: 5, 6, 7, 8; 1, 2, 3

## BSZ086P03NS3E G
designator Q?
P-Channel OptiMOS P3 Power-Transistor, -30 V VDS, -40 A ID, -55 to 150 degC, PG-TSDSON-8-1, Reel, Green; Manufacturer: Infineon; PartNumber: BSZ086P03NS3E G; Green: TRUE; ID (max): -40 A; IDpuls (max): -160 A; Pto t (max): 69 W; QG: 43.2 nC; RDS (on) (max): 8.6 mOhm; Rth: 1.8 K/W; VDS (max): -30 V; VGS(th) (max): -1.9 V; VGS(th) (min): -3.1 V; DatasheetVersion: Rev. 2.03; PackageVersion: Rev. 02, 09/2008; PackageReference: PG-TSDSON-8-1; PackageDescription: 8-Pin Plastic (Green) Thin Dual Small Outline Non-Leaded Package, 3.3 x 3.3 mm Body, 0.65 mm Pitch; Supplier 1: Mouser; Supplier Part Number 1: 726-BSZ086P03NS3EG; Supplier 2: Digi-Key; Supplier Part Number 2: BSZ086P03NS3E GTR-ND; Supplier 3: Digi-Key; Supplier Part Number 3: BSZ086P03NS3E GCT-ND; Supplier 4: Digi-Key; Supplier Part Number 4: BSZ086P03NS3E GDKR-ND; Halogen-free: TRUE; Packing: Reel; RthJC (max): 1.8 K/W; Mounting Technology: Surface Mount; ComponentLink1Description: Manufacturer URL; ComponentLink1URL: http://www.infineon.com/; ComponentLink2Description: Datasheet; ComponentLink2URL: http://www.infineon.com/dgdl/BSZ086P03NS3E+G_2.03.pdf?folderId=db3a304314dca38901154a72e3951a65&fileId=db3a30431ff9881501203d5e6a1717c9; ComponentLink3Description: Package Specification; ComponentLink3URL: http://www.infineon.com/dgdl/BSZ240N12NS3+Rev2.0.pdf?folderId=db3a304313b8b5a60113cee8763b02d7&fileId=db3a30432a40a650012a42f3057a0038
footprint INF-PG-TSDSON-8-1_V (TSDSON, 8-Leads, Body 3.3x3.3mm, Pitch 0.65mm)
pins: 1 S, 2 S, 3 S, 4 G, 5 D, 6 D, 7 D, 8 D
text: 5, 6, 7, 8; 1, 2, 3

## BSZ088N03LS G
designator Q?
N-Channel OptiMOS 3 Power-MOSFET, 30 V VDS, 40 A ID, -55 to 150 degC, PG-TSDSON-8-1, Reel, Green; Manufacturer: Infineon; PartNumber: BSZ088N03LS G; Green: TRUE; ID (max): 40 A; IDpuls (max): 160 A; Polarity: N; Ptot (max): 35 W; QG: 16 nC; RDS (on) (max): 8.8 mOhm; RDS (on) (max) (@4.5V): 11 mOhm; Rth: 3.6 K/W; RthJA (max): 60 K/W; VDS (max): 30 V; VGS(th) (max): 2.2 V; VGS(th) (min): 1 V; DatasheetVersion: Rev. 2.0; PackageVersion: Rev. 01, 03/2007; PackageReference: PG-TSDSON-8-1; PackageDescription: 8-Pin Plastic (Green) Thin Dual Small Outline Non-Leaded Package, 3.3 x 3.3 mm Body, 0.65 mm Pitch; Supplier 1: Mouser; Supplier Part Number 1: 726-BSZ088N03LSG; Supplier 2: Digi-Key; Supplier Part Number 2: BSZ088N03LSGINTR-ND; Supplier 3: Digi-Key; Supplier Part Number 3: BSZ088N03LSGINCT-ND; Supplier 4: Digi-Key; Supplier Part Number 4: BSZ088N03LSGINDKR-ND; Halogen-free: TRUE; Packing: Reel; RthJC (max): 3.6 K/W; Mounting Technology: Surface Mount; ComponentLink1Description: Manufacturer URL; ComponentLink1URL: http://www.infineon.com/; ComponentLink2Description: Datasheet; ComponentLink2URL: http://www.infineon.com/dgdl/BSZ088N03LSG_rev2.pdf?folderId=db3a304313b8b5a60113cee8ed2a02db&fileId=db3a304313b8b5a60113cf18620d02eb; ComponentLink3Description: Package Specification; ComponentLink3URL: http://www.infineon.com/dgdl/BSZ100N06LS3_rev2.3.pdf?folderId=db3a30431ddc9372011ebafa04517f8b&fileId=db3a30431ddc9372011ebb132c97000a
footprint INF-PG-TSDSON-8-1_A_V (TSDSON, 8-Leads, Body 3.3x3.3mm, Pitch 0.65mm)
pins: 1 SOURCE, 2 SOURCE, 3 SOURCE, 4 GATE, 5 DRAIN, 6 DRAIN, 7 DRAIN, 8 DRAIN
text: 5, 6, 7, 8; 1, 2, 3

## BSZ088N03MS G
designator Q?
N-Channel OptiMOS 3 M-Series Power-MOSFET, 30 V VDS, 40 A ID, -55 to 150 degC, PG-TSDSON-8-1, Reel, Green; Manufacturer: Infineon; PartNumber: BSZ088N03MS G; Green: TRUE; ID (max): 40 A; IDpuls (max): 160 A; Polarity: N; Ptot (max): 35 W; QG: 9.9 nC; RDS (on) (max): 8 mOhm; RDS (on) (max) (@4.5V): 9.7 mOhm; Rth: 3.6 K/W; RthJA (max): 60 K/W; VDS (max): 30 V; VGS(th) (max): 2 V; VGS(th) (min): 1 V; DatasheetVersion: Rev. 2.0; PackageVersion: Rev. 02, 09/2008; PackageReference: PG-TSDSON-8-1; PackageDescription: 8-Pin Plastic (Green) Thin Dual Small Outline Non-Leaded Package, 3.3 x 3.3 mm Body, 0.65 mm Pitch; Supplier 1: Mouser; Supplier Part Number 1: 726-BSZ088N03MSG; Halogen-free: TRUE; Packing: Reel; RthJC (max): 3.6 K/W; Mounting Technology: Surface Mount; ComponentLink1Description: Manufacturer URL; ComponentLink1URL: http://www.infineon.com/; ComponentLink2Description: Datasheet; ComponentLink2URL: http://www.infineon.com/dgdl/BSZ088N03MSG_rev2.pdf?folderId=db3a304313d846880113d91d60c500c4&fileId=db3a304313d846880113ddf12fe902f6; ComponentLink3Description: Package Specification; ComponentLink3URL: http://www.infineon.com/dgdl/BSZ240N12NS3+Rev2.0.pdf?folderId=db3a304313b8b5a60113cee8763b02d7&fileId=db3a30432a40a650012a42f3057a0038
footprint INF-PG-TSDSON-8-1_V (TSDSON, 8-Leads, Body 3.3x3.3mm, Pitch 0.65mm)
pins: 1 SOURCE, 2 SOURCE, 3 SOURCE, 4 GATE, 5 DRAIN, 6 DRAIN, 7 DRAIN, 8 DRAIN
text: 5, 6, 7, 8; 1, 2, 3

## BSZ097N04LS G
designator Q?
N-Channel OptiMOS 3 Power-Transistor, 40 V VDS, 40 A ID, -55 to 150 degC, PG-TSDSON-8-1, Reel, Green; Manufacturer: Infineon; PartNumber: BSZ097N04LS G; Green: TRUE; ID (max): 40 A; IDpuls (max): 160 A; Polarity: N; Ptot (max): 35 W; QG: 8.6 nC; RDS (on) (max): 9.7 mOhm; RDS (on) (max) (@4.5V): 14.2 mOhm; Rth: 3.6 K/W; RthJA (max): 60 K/W; VDS (max): 40 V; VGS(th) (max): 2 V; VGS(th) (min): 1.2 V; DatasheetVersion: Rev. 2.0; PackageVersion: Rev. 01, 03/2007; PackageReference: PG-TSDSON-8-1; PackageDescription: 8-Pin Plastic (Green) Thin Dual Small Outline Non-Leaded Package, 3.3 x 3.3 mm Body, 0.65 mm Pitch; Supplier 1: Mouser; Supplier Part Number 1: 726-BSZ097N04LSG; Supplier 2: Newark; Supplier Part Number 2: 60R2538; Supplier 3: Farnell; Supplier Part Number 3: 1775501; Supplier 4: Digi-Key; Supplier Part Number 4: BSZ097N04LSGINTR-ND; Supplier 5: Digi-Key; Supplier Part Number 5: BSZ097N04LSGINCT-ND; Supplier 6: Digi-Key; Supplier Part Number 6: BSZ097N04LSGINDKR-ND; Halogen-free: TRUE; Packing: Reel; RthJC (max): 3.6 K/W; Mounting Technology: Surface Mount; ComponentLink1Description: Manufacturer URL; ComponentLink1URL: http://www.infineon.com/; ComponentLink2Description: Datasheet; ComponentLink2URL: http://www.infineon.com/dgdl/BSZ097N04LSG_rev2.pdf?folderId=db3a3043163797a6011643468e7505a4&fileId=db3a3043163797a6011643be1d53068c; ComponentLink3Description: Package Specification; ComponentLink3URL: http://www.infineon.com/dgdl/BSZ100N06LS3_rev2.3.pdf?folderId=db3a30431ddc9372011ebafa04517f8b&fileId=db3a30431ddc9372011ebb132c97000a
footprint INF-PG-TSDSON-8-1_A_V (TSDSON, 8-Leads, Body 3.3x3.3mm, Pitch 0.65mm)
pins: 1 SOURCE, 2 SOURCE, 3 SOURCE, 4 GATE, 5 DRAIN, 6 DRAIN, 7 DRAIN, 8 DRAIN
text: 5, 6, 7, 8; 1, 2, 3

## BSZ097N10NS5
designator Q?
N-Channel OptiMOS(TM) 5 Power-Transistor, 100 V VDS, 40 A ID, -55 to 150 degC, PG-TSDSON-8, Reel, Green; Manufacturer: Infineon; PartNumber: BSZ097N10NS5; Green: TRUE; ID (max): 40 A; IDpuls (max): 160 A; Polarity: N; Ptot (max): 69 W; QG: 22 nc; RDS (on) (max): 9.7 mOhm; RthJA (max): 62 K/W; RthJC (max): 1.8 K/W; VDS (max): 100 V; VGS(th) (max): 3.8 V; VGS(th) (min): 2.2 V; DatasheetVersion: Rev. 2.1; PackageVersion: Rev. 2.0, 04/2013; PackageReference: PG-TSDSON-8; PackageDescription: 8-Pin Plastic (Green) Thin Dual Small Outline Non-Leaded Package, 3.3 x 3.3 mm Body, 0.65 mm Pitch; Supplier 1: Mouser; Supplier Part Number 1: N/A; Halogen-free: TRUE; Mounting: SMD; Packing: Reel; Technology: OptiMOS(TM); Mounting Technology: Surface Mount; ComponentLink1Description: Manufacturer URL; ComponentLink1URL: http://www.infineon.com/; ComponentLink2Description: Datasheet; ComponentLink2URL: http://www.infineon.com/dgdl/BSZ097N10NS5_2_1.pdf?folderId=db3a3043132679fb0113346bdc4505a3&fileId=5546d461454603990145d5a1b051648d; ComponentLink3Description: Package Specification; ComponentLink3URL: http://www.infineon.com/dgdl/BSZ034N04LS_rev2.0.pdf?folderId=db3a304313b8b5a60113cee8763b02d7&fileId=db3a304342371bb001424c3fe5bc7083
footprint INF-PG-TSDSON-8_FL_V (TSDSON, 8-Leads, Body 3.3x3.3mm, Pitch 0.65mm)
pins: 1 SOURCE, 2 SOURCE, 3 SOURCE, 4 GATE, 5 DRAIN, 6 DRAIN, 7 DRAIN, 8 DRAIN
text: 5, 6, 7, 8; 1, 2, 3

## BSZ100N03LS G
designator Q?
N-Channel OptiMOS 3 Power-MOSFET, 30 V VDS, 40 A ID, -55 to 150 degC, PG-TSDSON-8-1, Reel, Green; Manufacturer: Infineon; PartNumber: BSZ100N03LS G; Green: TRUE; ID (max): 40 A; IDpuls (max): 160 A; Polarity: N; Ptot (max): 30 W; QG: 13 nC; RDS (on) (max): 10 mOhm; RDS (on) (max) (@4.5V): 15 mOhm; Rth: 4.1 K/W; RthJA (max): 60 K/W; VDS (max): 30 V; VGS(th) (max): 2.2 V; VGS(th) (min): 1 V; DatasheetVersion: Rev. 2.0; PackageVersion: Rev. 02, 09/2008; PackageReference: PG-TSDSON-8-1; PackageDescription: 8-Pin Plastic (Green) Thin Dual Small Outline Non-Leaded Package, 3.3 x 3.3 mm Body, 0.65 mm Pitch; Supplier 1: Mouser; Supplier Part Number 1: 726-BSZ100N03LSG; Supplier 2: Digi-Key; Supplier Part Number 2: BSZ100N03LSGINTR-ND; Supplier 3: Digi-Key; Supplier Part Number 3: BSZ100N03LSGINCT-ND; Supplier 4: Digi-Key; Supplier Part Number 4: BSZ100N03LSGINDKR-ND; Halogen-free: TRUE; Packing: Reel; RthJC (max): 4.1 K/W; Mounting Technology: Surface Mount; ComponentLink1Description: Manufacturer URL; ComponentLink1URL: http://www.infineon.com/; ComponentLink2Description: Datasheet; ComponentLink2URL: http://www.infineon.com/dgdl/BSZ100N03LSG_rev2.pdf?folderId=db3a304313b8b5a60113cee8ed2a02db&fileId=db3a304313b8b5a60113d4003e0a03f8; ComponentLink3Description: Package Specification; ComponentLink3URL: http://www.infineon.com/dgdl/BSZ240N12NS3+Rev2.0.pdf?folderId=db3a304313b8b5a60113cee8763b02d7&fileId=db3a30432a40a650012a42f3057a0038
footprint INF-PG-TSDSON-8-1_V (TSDSON, 8-Leads, Body 3.3x3.3mm, Pitch 0.65mm)
pins: 1 SOURCE, 2 SOURCE, 3 SOURCE, 4 GATE, 5 DRAIN, 6 DRAIN, 7 DRAIN, 8 DRAIN
text: 5, 6, 7, 8; 1, 2, 3

## BSZ100N03MS G
designator Q?
N-Channel OptiMOS 3 M-Series Power-MOSFET, 30 V VDS, 40 A ID, -55 to 150 degC, PG-TSDSON-8-1, Reel, Green; Manufacturer: Infineon; PartNumber: BSZ100N03MS G; Green: TRUE; ID (max): 40 A; IDpuls (max): 160 A; Polarity: N; Ptot (max): 30 W; QG: 8.3 nC; RDS (on) (max): 9.1 mOhm; RDS (on) (max) (@4.5V): 11.4 mOhm; Rth: 4.1 K/W; RthJA (max): 60 K/W; VDS (max): 30 V; VGS(th) (max): 2 V; VGS(th) (min): 1 V; DatasheetVersion: Rev. 2.0; PackageVersion: Rev. 02, 09/2008; PackageReference: PG-TSDSON-8-1; PackageDescription: 8-Pin Plastic (Green) Thin Dual Small Outline Non-Leaded Package, 3.3 x 3.3 mm Body, 0.65 mm Pitch; Supplier 1: Mouser; Supplier Part Number 1: 726-BSZ100N03MSG; Supplier 2: Digi-Key; Supplier Part Number 2: BSZ100N03MSGINTR-ND; Supplier 3: Digi-Key; Supplier Part Number 3: BSZ100N03MSGINCT-ND; Supplier 4: Digi-Key; Supplier Part Number 4: BSZ100N03MSGINDKR-ND; Halogen-free: TRUE; Packing: Reel; RthJC (max): 4.1 K/W; Mounting Technology: Surface Mount; ComponentLink1Description: Manufacturer URL; ComponentLink1URL: http://www.infineon.com/; ComponentLink2Description: Datasheet; ComponentLink2URL: http://www.infineon.com/dgdl/BSZ100N03MSG_rev2.pdf?folderId=db3a304313d846880113d91d60c500c4&fileId=db3a304313d846880113de38a27f0316; ComponentLink3Description: Package Specification; ComponentLink3URL: http://www.infineon.com/dgdl/BSZ240N12NS3+Rev2.0.pdf?folderId=db3a304313b8b5a60113cee8763b02d7&fileId=db3a30432a40a650012a42f3057a0038
footprint INF-PG-TSDSON-8-1_V (TSDSON, 8-Leads, Body 3.3x3.3mm, Pitch 0.65mm)
pins: 1 SOURCE, 2 SOURCE, 3 SOURCE, 4 GATE, 5 DRAIN, 6 DRAIN, 7 DRAIN, 8 DRAIN
text: 5, 6, 7, 8; 1, 2, 3

## BSZ100N06LS3 G
designator Q?
N-Channel OptiMOS 3 Power-Transistor, 60 V VDS, 20 A ID, -55 to 150 degC, PG-TSDSON-8-21, Reel, Green; Manufacturer: Infineon; PartNumber: BSZ100N06LS3 G; Green: TRUE; ID (max): 20 A; IDpuls (max): 80 A; Polarity: N; Ptot (max): 50 W; QG: 15 nC; RDS (on) (max): 10 mOhm; RDS (on) (max) (@4.5V): 17.9 mOhm; Rth: 2.5 K/W; RthJA (max): 60 K/W; VDS (max): 60 V; VGS(th) (max): 2.2 V; VGS(th) (min): 1.7 V; DatasheetVersion: Rev. 2.3; PackageVersion: Rev. 01, 03/2007; PackageReference: PG-TSDSON-8-21; PackageDescription: 8-Pin Plastic (Green) Small Outline Non-Leaded Package, 3.3 x 3.3 mm Body, 0.65 mm Pitch; Supplier 1: Mouser; Supplier Part Number 1: 726-BSZ100N06LS3G; Supplier 2: Newark; Supplier Part Number 2: 47W3363; Supplier 3: Farnell; Supplier Part Number 3: 2212836; Supplier 4: Digi-Key; Supplier Part Number 4: BSZ100N06LS3GINTR-ND; Supplier 5: Digi-Key; Supplier Part Number 5: BSZ100N06LS3GINCT-ND; Supplier 6: Digi-Key; Supplier Part Number 6: BSZ100N06LS3GINDKR-ND; Halogen-free: TRUE; Packing: Reel; RthJC (max): 2.5 K/W; Mounting Technology: Surface Mount; ComponentLink1Description: Manufacturer URL; ComponentLink1URL: http://www.infineon.com/; ComponentLink2Description: Datasheet; ComponentLink2URL: http://www.infineon.com/dgdl/BSZ100N06LS3_rev2.3.pdf?folderId=db3a30431ddc9372011ebafa04517f8b&fileId=db3a30431ddc9372011ebb132c97000a; ComponentLink3Description: Package Specification; ComponentLink3URL: http://www.infineon.com/dgdl/BSZ110N06NS3_Rev2.4.pdf?folderId=db3a30431ddc9372011ebafa04517f8b&fileId=db3a30431ddc9372011ebb15d4e8001a
footprint INF-PG-TSDSON-8-21_V (SON, 8-Leads, Body 3.3x3.3mm, Pitch 0.65mm)
pins: 1 SOURCE, 2 SOURCE, 3 SOURCE, 4 GATE, 5 DRAIN, 6 DRAIN, 7 DRAIN, 8 DRAIN
text: 5, 6, 7, 8; 1, 2, 3

## BSZ100N06NS
designator Q?
N-Channel OptiMOS(TM) Power-MOSFET, 60 V VDS, 40 A ID, -55 to 150 degC, PG-TSDSON-8, Reel, Green; Manufacturer: Infineon; PartNumber: BSZ100N06NS; Green: TRUE; ID (max): 40 A; IDpuls (max): 160 A; Polarity: N; Ptot (max): 36 W; QG: 12 nc; RDS (on) (max): 10 mOhm; RthJA (max): 60 K/W; RthJC (max): 3.5 K/W; VDS (max): 60 V; VGS(th) (max): 3.3 V; VGS(th) (min): 2.1 V; DatasheetVersion: Rev. 2.0; PackageVersion: Rev. 2.0, 04/2013; PackageReference: PG-TSDSON-8; PackageDescription: 8-Pin Plastic (Green) Thin Dual Small Outline Non-Leaded Package, 3.3 x 3.3 mm Body, 0.65 mm Pitch; Supplier 1: Mouser; Supplier Part Number 1: N/A; Halogen-free: TRUE; Mounting: SMD; Packing: Reel; Technology: OptiMOS(TM); Mounting Technology: Surface Mount; ComponentLink1Description: Manufacturer URL; ComponentLink1URL: http://www.infineon.com/; ComponentLink2Description: Datasheet; ComponentLink2URL: http://www.infineon.com/dgdl/BSZ100N06NS_Rev2.0.pdf?folderId=db3a304313b8b5a60113cee8763b02d7&fileId=db3a304342371bb001424cf112fd7173; ComponentLink3Description: Package Specification; ComponentLink3URL: http://www.infineon.com/dgdl/BSZ034N04LS_rev2.0.pdf?folderId=db3a304313b8b5a60113cee8763b02d7&fileId=db3a304342371bb001424c3fe5bc7083
footprint INF-PG-TSDSON-8_FL_V (TSDSON, 8-Leads, Body 3.3x3.3mm, Pitch 0.65mm)
pins: 1 SOURCE, 2 SOURCE, 3 SOURCE, 4 GATE, 5 DRAIN, 6 DRAIN, 7 DRAIN, 8 DRAIN
text: 5, 6, 7, 8; 1, 2, 3

## BSZ105N04NS G
designator Q?
N-Channel OptiMOS 3 Power-Transistor, 40 V VDS, 40 A ID, -55 to 150 degC, PG-TSDSON-8-1, Reel, Green; Manufacturer: Infineon; PartNumber: BSZ105N04NS G; Green: TRUE; ID (max): 40 A; IDpuls (max): 160 A; Polarity: N; Ptot (max): 35 W; QG: 13 nC; RDS (on) (max): 10.5 mOhm; Rth: 3.6 K/W; RthJA (max): 60 K/W; VDS (max): 40 V; VGS(th) (max): 4 V; VGS(th) (min): 2 V; DatasheetVersion: Rev. 2.0; PackageVersion: Rev. 02, 09/2008; PackageReference: PG-TSDSON-8-1; PackageDescription: 8-Pin Plastic (Green) Thin Dual Small Outline Non-Leaded Package, 3.3 x 3.3 mm Body, 0.65 mm Pitch; Supplier 1: Mouser; Supplier Part Number 1: 726-BSZ105N04NSG; Supplier 2: Newark; Supplier Part Number 2: 60R2541; Supplier 3: Farnell; Supplier Part Number 3: 1775504; Supplier 4: Digi-Key; Supplier Part Number 4: BSZ105N04NSGINTR-ND; Supplier 5: Digi-Key; Supplier Part Number 5: BSZ105N04NSGINCT-ND; Supplier 6: Digi-Key; Supplier Part Number 6: BSZ105N04NSGINDKR-ND; Halogen-free: TRUE; Packing: Reel; RthJC (max): 3.6 K/W; Mounting Technology: Surface Mount; ComponentLink1Description: Manufacturer URL; ComponentLink1URL: http://www.infineon.com/; ComponentLink2Description: Datasheet; ComponentLink2URL: http://www.infineon.com/dgdl/BSZ105N04NSG_rev2.pdf?folderId=db3a3043156fd5730115c7d50620107c&fileId=db3a30431689f4420116c485c67f084e; ComponentLink3Description: Package Specification; ComponentLink3URL: http://www.infineon.com/dgdl/BSZ240N12NS3+Rev2.0.pdf?folderId=db3a304313b8b5a60113cee8763b02d7&fileId=db3a30432a40a650012a42f3057a0038
footprint INF-PG-TSDSON-8-1_V (TSDSON, 8-Leads, Body 3.3x3.3mm, Pitch 0.65mm)
pins: 1 SOURCE, 2 SOURCE, 3 SOURCE, 4 GATE, 5 DRAIN, 6 DRAIN, 7 DRAIN, 8 DRAIN
text: 5, 6, 7, 8; 1, 2, 3

## BSZ110N06NS3 G
designator Q?
N-Channel OptiMOS 3 Power-Transistor, 60 V VDS, 20 A ID, -55 to 150 degC, PG-TSDSON-8-21, Reel, Green; Manufacturer: Infineon; PartNumber: BSZ110N06NS3 G; Green: TRUE; ID (max): 20 A; IDpuls (max): 80 A; Polarity: N; Ptot (max): 50 W; QG: 25 nC; RDS (on) (max): 11 mOhm; Rth: 2.5 K/W; RthJA (max): 60 K/W; VDS (max): 60 V; VGS(th) (max): 4 V; VGS(th) (min): 2 V; DatasheetVersion: Rev. 2.4; PackageVersion: Rev. 01, 03/2007; PackageReference: PG-TSDSON-8-21; PackageDescription: 8-Pin Plastic (Green) Small Outline Non-Leaded Package, 3.3 x 3.3 mm Body, 0.65 mm Pitch; Supplier 1: Mouser; Supplier Part Number 1: 726-BSZ110N06NS3G; Supplier 2: Newark; Supplier Part Number 2: 47W3364; Supplier 3: Farnell; Supplier Part Number 3: 2212843; Supplier 4: Digi-Key; Supplier Part Number 4: BSZ110N06NS3GINTR-ND; Supplier 5: Digi-Key; Supplier Part Number 5: BSZ110N06NS3GINCT-ND; Supplier 6: Digi-Key; Supplier Part Number 6: BSZ110N06NS3GINDKR-ND; Halogen-free: TRUE; Packing: Reel; RthJC (max): 2.5 K/W; Mounting Technology: Surface Mount; ComponentLink1Description: Manufacturer URL; ComponentLink1URL: http://www.infineon.com/; ComponentLink2Description: Datasheet; ComponentLink2URL: http://www.infineon.com/dgdl/BSZ110N06NS3_Rev2.4.pdf?folderId=db3a30431ddc9372011ebafa04517f8b&fileId=db3a30431ddc9372011ebb15d4e8001a; ComponentLink3Description: Package Specification; ComponentLink3URL: http://www.infineon.com/dgdl/BSZ110N06NS3_Rev2.4.pdf?folderId=db3a30431ddc9372011ebafa04517f8b&fileId=db3a30431ddc9372011ebb15d4e8001a
footprint INF-PG-TSDSON-8-21_V (SON, 8-Leads, Body 3.3x3.3mm, Pitch 0.65mm)
pins: 1 SOURCE, 2 SOURCE, 3 SOURCE, 4 GATE, 5 DRAIN, 6 DRAIN, 7 DRAIN, 8 DRAIN
text: 5, 6, 7, 8; 1, 2, 3

## BSZ110N08NS5
designator Q?
N-Channel OptiMOS(TM) 5 Power-Transistor, 80 V VDS, 40 A ID, -55 to 150 degC, PG-TSDSON-8, Reel, Green; Manufacturer: Infineon; PartNumber: BSZ110N08NS5; Green: TRUE; ID (max): 40 A; IDpuls (max): 160 A; Polarity: N; Ptot (max): 50 W; QG: 15 nc; RDS (on) (max): 11 mOhm; RthJA (max): 60 K/W; RthJC (max): 2.5 K/W; VDS (max): 80 V; VGS(th) (max): 3.8 V; VGS(th) (min): 2.2 V; DatasheetVersion: Rev. 2.1; PackageVersion: Rev. 2.0, 04/2013; PackageReference: PG-TSDSON-8; PackageDescription: 8-Pin Plastic (Green) Thin Dual Small Outline Non-Leaded Package, 3.3 x 3.3 mm Body, 0.65 mm Pitch; Halogen-free: TRUE; Mounting: SMD; Packing: Reel; Technology: OptiMOS(TM); Mounting Technology: Surface Mount; ComponentLink1Description: Manufacturer URL; ComponentLink1URL: http://www.infineon.com/; ComponentLink2Description: Datasheet; ComponentLink2URL: http://www.infineon.com/dgdl/BSZ110N08NS5_2_1.pdf?folderId=db3a304313b8b5a60113cee7c66a02d6&fileId=5546d461454603990145ccd70d7261fe; ComponentLink3Description: Package Specification; ComponentLink3URL: http://www.infineon.com/dgdl/BSZ034N04LS_rev2.0.pdf?folderId=db3a304313b8b5a60113cee8763b02d7&fileId=db3a304342371bb001424c3fe5bc7083
footprint INF-PG-TSDSON-8_FL_V (TSDSON, 8-Leads, Body 3.3x3.3mm, Pitch 0.65mm)
pins: 1 SOURCE, 2 SOURCE, 3 SOURCE, 4 GATE, 5 DRAIN, 6 DRAIN, 7 DRAIN, 8 DRAIN
text: 5, 6, 7, 8; 1, 2, 3

## BSZ120P03NS3 G
designator Q?
P-Channel OptiMOS P3 Power-Transistor, -30 V VDS, -40 A ID, -55 to 150 degC, PG-TSDSON-8-1, Reel, Green; Manufacturer: Infineon; PartNumber: BSZ120P03NS3 G; Green: TRUE; ID (max): -40 A; IDpuls (max): -160 A; Pto t (max): 52 W; QG: 30 nC; RDS (on) (max): 12 mOhm; Rth: 2.4 K/W; VDS (max): -30 V; VGS(th) (max): -1.9 V; VGS(th) (min): -3.1 V; DatasheetVersion: Rev. 2.1; PackageVersion: Rev. 02, 09/2008; PackageReference: PG-TSDSON-8-1; PackageDescription: 8-Pin Plastic (Green) Thin Dual Small Outline Non-Leaded Package, 3.3 x 3.3 mm Body, 0.65 mm Pitch; Supplier 1: Mouser; Supplier Part Number 1: 726-BSZ120P03NS3G; Supplier 2: Digi-Key; Supplier Part Number 2: BSZ120P03NS3 G-ND; Halogen-free: TRUE; Packing: Reel; RthJC (max): 2.4 K/W; Mounting Technology: Surface Mount; ComponentLink1Description: Manufacturer URL; ComponentLink1URL: http://www.infineon.com/; ComponentLink2Description: Datasheet; ComponentLink2URL: http://www.infineon.com/dgdl/BSZ120P03NS3+G_2+1.pdf?folderId=db3a304314dca38901154a7313d21a66&fileId=db3a304326dfb13001271f0c11864edd; ComponentLink3Description: Package Specification; ComponentLink3URL: http://www.infineon.com/dgdl/BSZ240N12NS3+Rev2.0.pdf?folderId=db3a304313b8b5a60113cee8763b02d7&fileId=db3a30432a40a650012a42f3057a0038
footprint INF-PG-TSDSON-8-1_V (TSDSON, 8-Leads, Body 3.3x3.3mm, Pitch 0.65mm)
pins: 1 SOURCE, 2 SOURCE, 3 SOURCE, 4 GATE, 5 DRAIN, 6 DRAIN, 7 DRAIN, 8 DRAIN
text: 5, 6, 7, 8; 1, 2, 3

## BSZ120P03NS3E G
designator Q?
P-Channel OptiMOS P3 Power-Transistor, -30 V VDS, -40 A ID, -55 to 150 degC, PG-TSDSON-8-1, Reel, Green; Manufacturer: Infineon; PartNumber: BSZ120P03NS3E G; Green: TRUE; ID (max): -40 A; IDpuls (max): -160 A; Pto t (max): 52 W; QG: 30 nC; RDS (on) (max): 12 mOhm; Rth: 2.4 K/W; VDS (max): -30 V; VGS(th) (max): -1.9 V; VGS(th) (min): -3.1 V; DatasheetVersion: Rev. 2.1; PackageVersion: Rev. 02, 09/2008; PackageReference: PG-TSDSON-8-1; PackageDescription: 8-Pin Plastic (Green) Thin Dual Small Outline Non-Leaded Package, 3.3 x 3.3 mm Body, 0.65 mm Pitch; Supplier 1: Mouser; Supplier Part Number 1: 726-BSZ120P03NS3EG; Supplier 2: Digi-Key; Supplier Part Number 2: BSZ120P03NS3E G-ND; Halogen-free: TRUE; Packing: Reel; RthJC (max): 2.4 K/W; Mounting Technology: Surface Mount; ComponentLink1Description: Manufacturer URL; ComponentLink1URL: http://www.infineon.com/; ComponentLink2Description: Datasheet; ComponentLink2URL: http://www.infineon.com/dgdl/BSZ120P03NS3E+G+2.1.pdf?folderId=db3a304314dca38901154a7313d21a66&fileId=db3a304324fc7f9a0124fde273d30040; ComponentLink3Description: Package Specification; ComponentLink3URL: http://www.infineon.com/dgdl/BSZ240N12NS3+Rev2.0.pdf?folderId=db3a304313b8b5a60113cee8763b02d7&fileId=db3a30432a40a650012a42f3057a0038
footprint INF-PG-TSDSON-8-1_V (TSDSON, 8-Leads, Body 3.3x3.3mm, Pitch 0.65mm)
pins: 1 S, 2 S, 3 S, 4 G, 5 D, 6 D, 7 D, 8 D
text: 5, 6, 7, 8; 1, 2, 3